# Altium footprint library Gelnar.PcbLib: 295 footprints (part 11 of 19)
Each footprint in its own frame and in the unit in brackets; x right, y up, seen from the top. Pads: shape width x height; smd on the part's side, far side on the other; paste and mask are expansions set on the pad; w line width, h text height; cw(c..) or ccw(c..) is an arc to the next point about the centre after c.
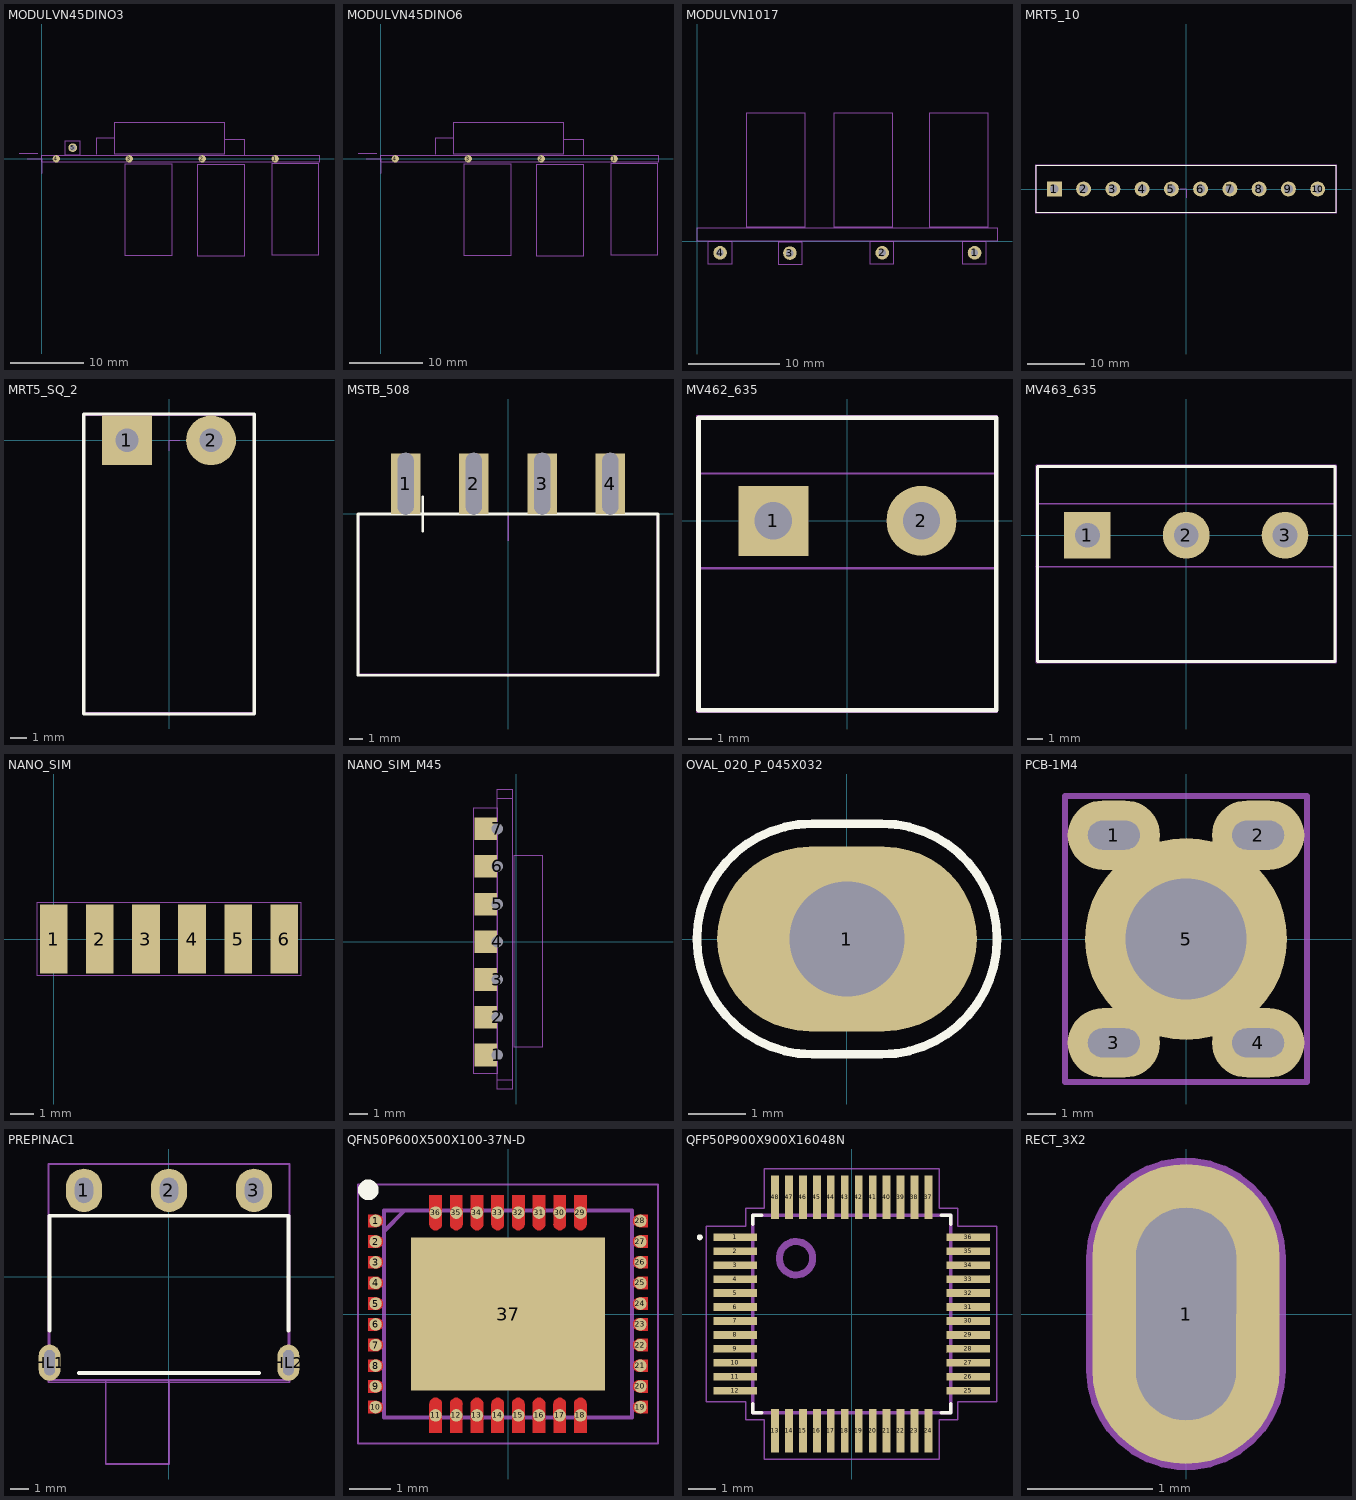
[diagram p10: the footprints below, top view; thin cyan lines are the x and y axes]

## MODULVN45DINO3 [mm]
pads (5):
  round 1 smd: 1(32,0) 2(22,0) 3(12,0) 4(2,0)
  round 1.2 / inner round 1 / far side round 1.2 hole 0.8 mask+0.05: 5(4.25,1.524)
Mechanical 15:
  lines w0.01: 7.493,0.635 7.493,2.794 9.906,2.794 ; 25.019,2.667 27.749,2.667 27.749,0.572 ; 3.238,0.508 5.239,0.508 5.239,2.496 3.238,2.496 3.238,0.508 ; 9.983,0.635 24.983,0.635 24.983,5.016 9.983,5.016 9.983,0.635
  lines w0.1: 0,-0.5 38,-0.5 38,0.5 0,0.5 0,-0.5 ; 11.367,-13.232 17.866,-13.232 17.866,-0.732 11.367,-0.732 11.367,-13.232 ; 21.336,-13.296 27.836,-13.296 27.836,-0.796 21.336,-0.796 21.336,-13.296 ; 31.496,-13.169 37.996,-13.169 37.996,-0.669 31.496,-0.669 31.496,-13.169
Mechanical 16:
  lines w0.1: -3.111,0.71 -0.508,0.71
Multi-Layer:
  text "Value" at 21.562,-0.575 h0.75
Mechanical 19:
  lines w0.01: -2,0 0,0 0,-2

## MODULVN45DINO6 [mm]
pads (4):
  round 1 smd: 1(32,0) 2(22,0) 3(12,0) 4(2,0)
Mechanical 15:
  lines w0.01: 7.493,0.635 7.493,2.794 9.906,2.794 ; 25.019,2.667 27.749,2.667 27.749,0.572 ; 9.983,0.635 24.983,0.635 24.983,5.016 9.983,5.016 9.983,0.635
  lines w0.1: 0,-0.5 38,-0.5 38,0.5 0,0.5 0,-0.5 ; 11.367,-13.232 17.866,-13.232 17.866,-0.732 11.367,-0.732 11.367,-13.232 ; 21.336,-13.296 27.836,-13.296 27.836,-0.796 21.336,-0.796 21.336,-13.296 ; 31.496,-13.169 37.996,-13.169 37.996,-0.669 31.496,-0.669 31.496,-13.169
Mechanical 16:
  lines w0.1: -3.111,0.71 -0.508,0.71
Mechanical 19:
  lines w0.01: -2,0 0,0 0,-2

## MODULVN1017 [mm]
pads (4):
  round 1.5 hole 0.8 mask+0.05: 1(30.528,-1.27) 2(20.377,-1.27) 3(10.217,-1.306) 4(2.54,-1.27)
Mechanical 15:
  lines w0.1: 0,0 33,0 33,1.5 0,1.5 0,0 ; 1.259,-2.54 3.799,-2.54 3.799,0 1.259,0 1.259,-2.54 ; 5.396,1.573 11.896,1.573 11.896,14.073 5.396,14.073 5.396,1.573 ; 8.974,-2.576 11.514,-2.576 11.514,-0.036 8.974,-0.036 8.974,-2.576 ; 15.048,1.573 21.548,1.573 21.548,14.073 15.048,14.073 15.048,1.573 ; 19.052,-2.54 21.592,-2.54 21.592,0 19.052,0 19.052,-2.54 ; 25.525,1.573 32.026,1.573 32.026,14.073 25.525,14.073 25.525,1.573 ; 29.216,-2.54 31.756,-2.54 31.756,0 29.216,0 29.216,-2.54
Multi-Layer:
  text "Value" at 21.562,0.175 h0.75

## MRT5_10 [mm]
pads (10):
  rect 2.6x2.6 / inner round 2.6 / far side round 2.6 hole 1.5 mask+0.1: 1(-22.86,0)
  round 2.6 hole 1.5 mask+0.1: 2(-17.78,0) 3(-12.7,0) 4(-7.62,0) 5(-2.54,0) 6(2.54,0) 7(7.62,0) 8(12.7,0) 9(17.78,0) 10(22.86,0)
Top Overlay:
  lines w0.2: -26,-4.15 26,-4.15 26,4.127 -26,4.127 -26,-4.15
Mechanical 15:
  circle w0.1: c-22.86,0 r0.65
  circle w0.1: c-17.78,0 r0.65
  lines w0.1: -26.035,-4.191 -26.035,4.191 26.035,4.191 26.035,-4.191 -26.035,-4.191
Mechanical 16:
  circle w0.1: c-22.86,0 r0.65
  circle w0.1: c-17.78,0 r0.65
  lines w0.2: -0.953,0 0,0 0,-1.333
Multi-Layer:
  text "Value" at -1.108,-2.266 h0.75
Mechanical 19:
  lines w0.1: -1.016,0 0,0 0,-1.524
Mechanical 20:
  lines w0.1: -25.971,-4.127 25.971,-4.127 25.971,4.127 -25.971,4.127 -25.971,-4.127

## MRT5_SQ_2 [mm]
pads (2):
  rect 3x3 hole 1.4 mask+0.05: 1(-2.54,0)
  round 3 hole 1.4 mask+0.05: 2(2.54,0)
Top Overlay:
  lines w0.2: -5.143,-16.51 5.143,-16.51 5.143,1.587 -5.143,1.587 -5.143,-16.51
Mechanical 15:
  lines w0.01: -5.08,-16.447 5.08,-16.447 5.08,1.524 -5.08,1.524 -5.08,-16.447
Multi-Layer:
  text "Value" at -1.063,-3.364 h0.75
Mechanical 19:
  lines w0.01: 0,-0.635 0,0 0.635,0
Mechanical 20:
  lines w0.01: -5.143,-16.51 5.143,-16.51 5.143,1.587 -5.143,1.587 -5.143,-16.51

## MSTB_508 [mm]
height 9.5
pads (4):
  rect 2.2x4.5 / inner round 0 / far side rect 2.2x4.5 hole 1.2 slot 4.6 at 90 deg mask+0.05: 1(-7.62,2.25) 2(-2.54,2.25) 3(2.54,2.25) 4(7.62,2.25)
Top Overlay:
  lines w0.2: -6.35,-1.27 -6.35,1.27 ; -11.16,-12 11.16,-12 11.16,0 -11.16,0 -11.16,-12
Mechanical 15:
  lines w0.1: -6.35,-1.27 -6.35,1.27 ; -11.16,-12 11.16,-12 11.16,0 -11.16,0 -11.16,-12
Multi-Layer:
  text "Value" at -1.235,-0.361 h0.75
Mechanical 19:
  lines w0.1: 0,-2 0,0 2,0
Mechanical 20:
  lines w0.1: -11.1,-11.93 11.1,-11.93 11.1,-0.03 -11.1,-0.03 -11.1,-11.93

## MV462_635 [mm]
height 9.5
pads (2):
  rect 3x3 / inner round 3 / far side rect 3x3 hole 1.6 mask+0.1: 1(-3.175,0)
  round 3 hole 1.6 mask+0.1: 2(3.175,0)
Top Overlay:
  lines w0.2: -6.386,-8.116 6.386,-8.116 6.386,4.417 -6.386,4.417 -6.386,-8.116
Mechanical 15:
  lines w0.1: -6.413,2.032 6.35,2.032 ; -6.35,-2.032 6.413,-2.032 ; -6.45,-8.18 6.413,-8.18 6.413,4.48 -6.45,4.48 -6.45,-8.18
Mechanical 20:
  lines w0.1: -6.386,-8.116 6.35,-8.116 6.35,4.417 -6.386,4.417 -6.386,-8.116

## MV463_635 [mm]
height 9.5
pads (3):
  rect 3x3 hole 1.6 mask+0.1: 1(-6.35,0)
  round 3 hole 1.6 mask+0.1: 2(0,0) 3(6.35,0)
Top Overlay:
  lines w0.2: -9.561,-8.116 9.561,-8.116 9.561,4.417 -9.561,4.417 -9.561,-8.116
Mechanical 15:
  lines w0.1: -9.652,-2.032 9.461,-2.032 ; -9.588,2.032 9.525,2.032 ; -9.625,-8.18 9.625,-8.18 9.625,4.48 -9.625,4.48 -9.625,-8.18
Mechanical 20:
  lines w0.1: -9.561,-8.116 9.561,-8.116 9.561,4.417 -9.561,4.417 -9.561,-8.116

## NANO_SIM [mm]
pads (6):
  rect 1.2x3 smd mask+0.05: 1(0,0) 2(2,0) 3(4,0) 4(6,0) 5(8,0) 6(10,0)
Mechanical 15:
  lines w0.01: -0.699,-1.587 10.7,-1.587 10.7,1.587 -0.699,1.587 -0.699,-1.587
Multi-Layer:
  text "Value" at 4.763,-0.254 h0.6

## NANO_SIM_M45 [mm]
pads (7):
  rrect0% 1.2x1.2 hole 0.6 copper offset -0.6,0 mask+0.05: 1(-1,-6) 2(-1,-4) 3(-1,-2) 4(-1,0) 5(-1,2) 6(-1,4) 7(-1,6)
Mechanical 15:
  lines w0.01: -1,-7.3 -0.2,-7.3 ; -1,7.6 -0.2,7.6 ; -2.25,-7 -2.25,7.1 -1,7.1 -1,-7 -2.25,-7 ; -1,-7.8 -1,8.1 -0.2,8.1 -0.2,-7.8 -1,-7.8 ; -0.1,-5.6 -0.1,4.6 1.4,4.6 1.4,-5.6 -0.1,-5.6

## OVAL_020_P_045X032 [mm]
pads (1):
  oval 4.5x3.2 hole 2 mask+0.05: 1(0,0)
Top Overlay:
  lines w0.15: -0.6,-2 0.6,-2 ccw(c0.6,0) 0.6,2 -0.6,2 ccw(c-0.6,0) -0.6,-2
Mechanical 15:
  circle w0.1: c0,0 r0.85
Mechanical 16:
  circle w0.1: c0,0 r0.85
Multi-Layer:
  text "Value" at -1.235,-0.933 h0.75
Mechanical 20:
  lines w0.1: -0.6,-2 0.6,-2 ccw(c0.6,0) 0.6,2 -0.6,2 ccw(c-0.6,0) -0.6,-2

## PCB-1M4 [mm]
pads (5):
  oval 3.2x2.4 hole 1 slot 1.8 at 0 deg mask+0.05: 1(-2.5,3.6) 2(2.5,3.6) 3(-2.5,-3.6) 4(2.5,-3.6)
  round 7 hole 4.2 mask+0.05: 5(0,0)
Mechanical 15:
  circle w0.1: c-2.5,3.5 r0.3
  lines w0.2: -4.191,-4.953 4.191,-4.953 4.191,4.953 -4.191,4.953 -4.191,-4.953
Mechanical 16:
  circle w0.1: c-2.5,3.5 r0.3
Mechanical 19:
  lines w0.1: -1.5,0 0,0 0,-1.5

## PREPINAC1 [mm]
pads (5):
  oval 2x2.4 hole 1 slot 1.4 at 90 deg mask+0.05: 1(-4.7,4.765) 2(0,4.765) 3(4.7,4.765)
  oval 1.2x2 hole 0.6 slot 1.4 at 90 deg mask+0.05: HL1(-6.605,-4.765) HL2(6.606,-4.765)
Top Overlay:
  lines w0.2: -6.61,-3 -6.61,3.365 6.61,3.365 6.61,-3 ; -5,-5.334 5,-5.334
Mechanical 15:
  lines w0.1: -6.604,-5.715 6.604,-5.715 6.604,3.365 -6.604,3.365 -6.604,-5.715 ; -3.5,-10.365 0,-10.365 0,-5.715 -3.5,-5.715 -3.5,-10.365
Multi-Layer:
  text "Value" at -1.108,-2.012 h0.75
Mechanical 20:
  lines w0.1: -6.667,-5.842 6.667,-5.842 6.667,6.223 -6.667,6.223 -6.667,-5.842

## QFN50P600X500X100-37N-D [mm]
pads (37):
  round 0.3 smd: 1(-3.2,2.25) 2(-3.2,1.75) 3(-3.2,1.25) 4(-3.2,0.75) 5(-3.2,0.25) 6(-3.2,-0.25) 7(-3.2,-0.75) 8(-3.2,-1.25) 9(-3.2,-1.75) 10(-3.2,-2.25) 11(-1.75,-2.45) 12(-1.25,-2.45) 13(-0.75,-2.45) 14(-0.25,-2.45) 15(0.25,-2.45) 16(0.75,-2.45) 17(1.25,-2.45) 18(1.75,-2.45) 19(3.2,-2.25) 20(3.2,-1.75) 21(3.2,-1.25) 22(3.2,-0.75) 23(3.2,-0.25) 24(3.2,0.25) 25(3.2,0.75) 26(3.2,1.25) 27(3.2,1.75) 28(3.2,2.25) 29(1.75,2.45) 30(1.25,2.45) 31(0.75,2.45) 32(0.25,2.45) 33(-0.25,2.45) 34(-0.75,2.45) 35(-1.25,2.45) 36(-1.75,2.45)
  rect 4.7x3.7 smd: 37(0,0)
L1-Top Layer:
  region: -3.375,2.4 -3.175,2.401 -3.136,2.396 -3.099,2.381 -3.068,2.357 -3.044,2.326 -3.029,2.289 -3.024,2.25 -3.029,2.211 -3.044,2.174 -3.068,2.143 -3.099,2.119 -3.136,2.104 -3.175,2.099 -3.175,2.1 -3.375,2.1
  region: -3.375,1.9 -3.175,1.901 -3.136,1.896 -3.099,1.881 -3.068,1.857 -3.044,1.826 -3.029,1.789 -3.024,1.75 -3.029,1.711 -3.044,1.674 -3.068,1.643 -3.099,1.619 -3.136,1.604 -3.175,1.599 -3.175,1.6 -3.375,1.6
  region: -3.375,1.4 -3.175,1.401 -3.136,1.396 -3.099,1.381 -3.068,1.357 -3.044,1.326 -3.029,1.289 -3.024,1.25 -3.029,1.211 -3.044,1.174 -3.068,1.143 -3.099,1.119 -3.136,1.104 -3.175,1.099 -3.175,1.1 -3.375,1.1
  region: -3.375,0.9 -3.175,0.901 -3.136,0.896 -3.099,0.881 -3.068,0.857 -3.044,0.826 -3.029,0.789 -3.024,0.75 -3.029,0.711 -3.044,0.674 -3.068,0.643 -3.099,0.619 -3.136,0.604 -3.175,0.599 -3.175,0.6 -3.375,0.6
  region: -3.375,0.4 -3.175,0.401 -3.136,0.396 -3.099,0.381 -3.068,0.357 -3.044,0.326 -3.029,0.289 -3.024,0.25 -3.029,0.211 -3.044,0.174 -3.068,0.143 -3.099,0.119 -3.136,0.104 -3.175,0.099 -3.175,0.1 -3.375,0.1
  region: -3.375,-0.1 -3.175,-0.099 -3.136,-0.104 -3.099,-0.119 -3.068,-0.143 -3.044,-0.174 -3.029,-0.211 -3.024,-0.25 -3.029,-0.289 -3.044,-0.326 -3.068,-0.357 -3.099,-0.381 -3.136,-0.396 -3.175,-0.401 -3.175,-0.4 -3.375,-0.4
  region: -3.375,-0.6 -3.175,-0.599 -3.136,-0.604 -3.099,-0.619 -3.068,-0.643 -3.044,-0.674 -3.029,-0.711 -3.024,-0.75 -3.029,-0.789 -3.044,-0.826 -3.068,-0.857 -3.099,-0.881 -3.136,-0.896 -3.175,-0.901 -3.175,-0.9 -3.375,-0.9
  region: -3.375,-1.1 -3.175,-1.099 -3.136,-1.104 -3.099,-1.119 -3.068,-1.143 -3.044,-1.174 -3.029,-1.211 -3.024,-1.25 -3.029,-1.289 -3.044,-1.326 -3.068,-1.357 -3.099,-1.381 -3.136,-1.396 -3.175,-1.401 -3.175,-1.4 -3.375,-1.4
  region: -3.375,-1.6 -3.175,-1.599 -3.136,-1.604 -3.099,-1.619 -3.068,-1.643 -3.044,-1.674 -3.029,-1.711 -3.024,-1.75 -3.029,-1.789 -3.044,-1.826 -3.068,-1.857 -3.099,-1.881 -3.136,-1.896 -3.175,-1.901 -3.175,-1.9 -3.375,-1.9
  region: -3.375,-2.1 -3.175,-2.099 -3.136,-2.104 -3.099,-2.119 -3.068,-2.143 -3.044,-2.174 -3.029,-2.211 -3.024,-2.25 -3.029,-2.289 -3.044,-2.326 -3.068,-2.357 -3.099,-2.381 -3.136,-2.396 -3.175,-2.401 -3.175,-2.4 -3.375,-2.4
  region: -1.9,-2.875 -1.901,-2.175 -1.896,-2.136 -1.881,-2.099 -1.857,-2.068 -1.826,-2.044 -1.789,-2.029 -1.75,-2.024 -1.711,-2.029 -1.674,-2.044 -1.643,-2.068 -1.619,-2.099 -1.604,-2.136 -1.599,-2.175 -1.6,-2.175 -1.6,-2.875
  region: -1.4,-2.875 -1.401,-2.175 -1.396,-2.136 -1.381,-2.099 -1.357,-2.068 -1.326,-2.044 -1.289,-2.029 -1.25,-2.024 -1.211,-2.029 -1.174,-2.044 -1.143,-2.068 -1.119,-2.099 -1.104,-2.136 -1.099,-2.175 -1.1,-2.175 -1.1,-2.875
  region: -0.9,-2.875 -0.901,-2.175 -0.896,-2.136 -0.881,-2.099 -0.857,-2.068 -0.826,-2.044 -0.789,-2.029 -0.75,-2.024 -0.711,-2.029 -0.674,-2.044 -0.643,-2.068 -0.619,-2.099 -0.604,-2.136 -0.599,-2.175 -0.6,-2.175 -0.6,-2.875
  region: -0.4,-2.875 -0.401,-2.175 -0.396,-2.136 -0.381,-2.099 -0.357,-2.068 -0.326,-2.044 -0.289,-2.029 -0.25,-2.024 -0.211,-2.029 -0.174,-2.044 -0.143,-2.068 -0.119,-2.099 -0.104,-2.136 -0.099,-2.175 -0.1,-2.175 -0.1,-2.875
  region: 0.1,-2.875 0.099,-2.175 0.104,-2.136 0.119,-2.099 0.143,-2.068 0.174,-2.044 0.211,-2.029 0.25,-2.024 0.289,-2.029 0.326,-2.044 0.357,-2.068 0.381,-2.099 0.396,-2.136 0.401,-2.175 0.4,-2.175 0.4,-2.875
  region: 0.6,-2.875 0.599,-2.175 0.604,-2.136 0.619,-2.099 0.643,-2.068 0.674,-2.044 0.711,-2.029 0.75,-2.024 0.789,-2.029 0.826,-2.044 0.857,-2.068 0.881,-2.099 0.896,-2.136 0.901,-2.175 0.9,-2.175 0.9,-2.875
  region: 1.1,-2.875 1.099,-2.175 1.104,-2.136 1.119,-2.099 1.143,-2.068 1.174,-2.044 1.211,-2.029 1.25,-2.024 1.289,-2.029 1.326,-2.044 1.357,-2.068 1.381,-2.099 1.396,-2.136 1.401,-2.175 1.4,-2.175 1.4,-2.875
  region: 1.6,-2.875 1.599,-2.175 1.604,-2.136 1.619,-2.099 1.643,-2.068 1.674,-2.044 1.711,-2.029 1.75,-2.024 1.789,-2.029 1.826,-2.044 1.857,-2.068 1.881,-2.099 1.896,-2.136 1.901,-2.175 1.9,-2.175 1.9,-2.875
  region: 3.375,-2.4 3.175,-2.401 3.136,-2.396 3.099,-2.381 3.068,-2.357 3.044,-2.326 3.029,-2.289 3.024,-2.25 3.029,-2.211 3.044,-2.174 3.068,-2.143 3.099,-2.119 3.136,-2.104 3.175,-2.099 3.175,-2.1 3.375,-2.1
  region: 3.375,-1.9 3.175,-1.901 3.136,-1.896 3.099,-1.881 3.068,-1.857 3.044,-1.826 3.029,-1.789 3.024,-1.75 3.029,-1.711 3.044,-1.674 3.068,-1.643 3.099,-1.619 3.136,-1.604 3.175,-1.599 3.175,-1.6 3.375,-1.6
  region: 3.375,-1.4 3.175,-1.401 3.136,-1.396 3.099,-1.381 3.068,-1.357 3.044,-1.326 3.029,-1.289 3.024,-1.25 3.029,-1.211 3.044,-1.174 3.068,-1.143 3.099,-1.119 3.136,-1.104 3.175,-1.099 3.175,-1.1 3.375,-1.1
  region: 3.375,-0.9 3.175,-0.901 3.136,-0.896 3.099,-0.881 3.068,-0.857 3.044,-0.826 3.029,-0.789 3.024,-0.75 3.029,-0.711 3.044,-0.674 3.068,-0.643 3.099,-0.619 3.136,-0.604 3.175,-0.599 3.175,-0.6 3.375,-0.6
  region: 3.375,-0.4 3.175,-0.401 3.136,-0.396 3.099,-0.381 3.068,-0.357 3.044,-0.326 3.029,-0.289 3.024,-0.25 3.029,-0.211 3.044,-0.174 3.068,-0.143 3.099,-0.119 3.136,-0.104 3.175,-0.099 3.175,-0.1 3.375,-0.1
  region: 3.375,0.1 3.175,0.099 3.136,0.104 3.099,0.119 3.068,0.143 3.044,0.174 3.029,0.211 3.024,0.25 3.029,0.289 3.044,0.326 3.068,0.357 3.099,0.381 3.136,0.396 3.175,0.401 3.175,0.4 3.375,0.4
  region: 3.375,0.6 3.175,0.599 3.136,0.604 3.099,0.619 3.068,0.643 3.044,0.674 3.029,0.711 3.024,0.75 3.029,0.789 3.044,0.826 3.068,0.857 3.099,0.881 3.136,0.896 3.175,0.901 3.175,0.9 3.375,0.9
  region: 3.375,1.1 3.175,1.099 3.136,1.104 3.099,1.119 3.068,1.143 3.044,1.174 3.029,1.211 3.024,1.25 3.029,1.289 3.044,1.326 3.068,1.357 3.099,1.381 3.136,1.396 3.175,1.401 3.175,1.4 3.375,1.4
  region: 3.375,1.6 3.175,1.599 3.136,1.604 3.099,1.619 3.068,1.643 3.044,1.674 3.029,1.711 3.024,1.75 3.029,1.789 3.044,1.826 3.068,1.857 3.099,1.881 3.136,1.896 3.175,1.901 3.175,1.9 3.375,1.9
  region: 3.375,2.1 3.175,2.099 3.136,2.104 3.099,2.119 3.068,2.143 3.044,2.174 3.029,2.211 3.024,2.25 3.029,2.289 3.044,2.326 3.068,2.357 3.099,2.381 3.136,2.396 3.175,2.401 3.175,2.4 3.375,2.4
  region: 1.9,2.875 1.901,2.175 1.896,2.136 1.881,2.099 1.857,2.068 1.826,2.044 1.789,2.029 1.75,2.024 1.711,2.029 1.674,2.044 1.643,2.068 1.619,2.099 1.604,2.136 1.599,2.175 1.6,2.175 1.6,2.875
  region: 1.4,2.875 1.401,2.175 1.396,2.136 1.381,2.099 1.357,2.068 1.326,2.044 1.289,2.029 1.25,2.024 1.211,2.029 1.174,2.044 1.143,2.068 1.119,2.099 1.104,2.136 1.099,2.175 1.1,2.175 1.1,2.875
  region: 0.9,2.875 0.901,2.175 0.896,2.136 0.881,2.099 0.857,2.068 0.826,2.044 0.789,2.029 0.75,2.024 0.711,2.029 0.674,2.044 0.643,2.068 0.619,2.099 0.604,2.136 0.599,2.175 0.6,2.175 0.6,2.875
  region: 0.4,2.875 0.401,2.175 0.396,2.136 0.381,2.099 0.357,2.068 0.326,2.044 0.289,2.029 0.25,2.024 0.211,2.029 0.174,2.044 0.143,2.068 0.119,2.099 0.104,2.136 0.099,2.175 0.1,2.175 0.1,2.875
  region: -0.1,2.875 -0.099,2.175 -0.104,2.136 -0.119,2.099 -0.143,2.068 -0.174,2.044 -0.211,2.029 -0.25,2.024 -0.289,2.029 -0.326,2.044 -0.357,2.068 -0.381,2.099 -0.396,2.136 -0.401,2.175 -0.4,2.175 -0.4,2.875
  region: -0.6,2.875 -0.599,2.175 -0.604,2.136 -0.619,2.099 -0.643,2.068 -0.674,2.044 -0.711,2.029 -0.75,2.024 -0.789,2.029 -0.826,2.044 -0.857,2.068 -0.881,2.099 -0.896,2.136 -0.901,2.175 -0.9,2.175 -0.9,2.875
  region: -1.1,2.875 -1.099,2.175 -1.104,2.136 -1.119,2.099 -1.143,2.068 -1.174,2.044 -1.211,2.029 -1.25,2.024 -1.289,2.029 -1.326,2.044 -1.357,2.068 -1.381,2.099 -1.396,2.136 -1.401,2.175 -1.4,2.175 -1.4,2.875
  region: -1.6,2.875 -1.599,2.175 -1.604,2.136 -1.619,2.099 -1.643,2.068 -1.674,2.044 -1.711,2.029 -1.75,2.024 -1.789,2.029 -1.826,2.044 -1.857,2.068 -1.881,2.099 -1.896,2.136 -1.901,2.175 -1.9,2.175 -1.9,2.875
Top Overlay:
  circle w0.25: c-3.375,3 r0.125
Mechanical 15:
  lines w0.1: -3,2 -2.5,2.5 ; -3,-2.5 3,-2.5 3,2.5 -3,2.5 -3,-2.5
Mechanical 20:
  lines w0.05: -3.625,-3.125 3.625,-3.125 3.625,3.125 -3.625,3.125 -3.625,-3.125

## QFP50P900X900X16048N [mm]
pads (48):
  rect 1.56x0.28 smd: 1(-4.18,2.75) 2(-4.18,2.25) 3(-4.18,1.75) 4(-4.18,1.25) 5(-4.18,0.75) 6(-4.18,0.25) 7(-4.18,-0.25) 8(-4.18,-0.75) 9(-4.18,-1.25) 10(-4.18,-1.75) 11(-4.18,-2.25) 12(-4.18,-2.75) 25(4.18,-2.75) 26(4.18,-2.25) 27(4.18,-1.75) 28(4.18,-1.25) 29(4.18,-0.75) 30(4.18,-0.25) 31(4.18,0.25) 32(4.18,0.75) 33(4.18,1.25) 34(4.18,1.75) 35(4.18,2.25) 36(4.18,2.75)
  rect 0.28x1.56 smd: 13(-2.75,-4.18) 14(-2.25,-4.18) 15(-1.75,-4.18) 16(-1.25,-4.18) 17(-0.75,-4.18) 18(-0.25,-4.18) 19(0.25,-4.18) 20(0.75,-4.18) 21(1.25,-4.18) 22(1.75,-4.18) 23(2.25,-4.18) 24(2.75,-4.18) 37(2.75,4.18) 38(2.25,4.18) 39(1.75,4.18) 40(1.25,4.18) 41(0.75,4.18) 42(0.25,4.18) 43(-0.25,4.18) 44(-0.75,4.18) 45(-1.25,4.18) 46(-1.75,4.18) 47(-2.25,4.18) 48(-2.75,4.18)
Top Overlay:
  region: -5.35,2.75 -5.35,2.77 -5.365,2.807 -5.393,2.835 -5.43,2.85 -5.45,2.85 -5.47,2.85 -5.507,2.835 -5.535,2.807 -5.55,2.77 -5.55,2.75 -5.55,2.73 -5.535,2.693 -5.507,2.665 -5.47,2.65 -5.45,2.65 -5.43,2.65 -5.393,2.665 -5.365,2.693 -5.35,2.73
  lines w0.127: -3.55,-3.22 -3.55,-3.55 -3.22,-3.55 ; -3.55,3.22 -3.55,3.55 -3.22,3.55 ; 3.22,-3.55 3.55,-3.55 3.55,-3.22 ; 3.22,3.55 3.55,3.55 3.55,3.22
Mechanical 15:
  drawing of 53 lines, arcs and shapes, not listed
Mechanical 20:
  lines w0.05: -5.21,-3.14 -3.8,-3.14 -3.8,-3.8 -3.14,-3.8 -3.14,-5.21 3.14,-5.21 3.14,-3.8 3.8,-3.8 3.8,-3.14 5.21,-3.14 5.21,3.14 3.8,3.14 3.8,3.8 3.14,3.8 3.14,5.21 -3.14,5.21 -3.14,3.8 -3.8,3.8 -3.8,3.14 -5.21,3.14 -5.21,-3.14

## RECT_3X2 [mm]
pads (1):
  oval 1.5x2.4 hole 0.8 slot 1.7 at 90 deg mask+0.05: 1(0,0)
Mechanical 15:
  lines w0.1: -0.75,-0.45 ccw(c0,-0.45) 0.75,-0.45 0.75,0.45 ccw(c0,0.45) -0.75,0.45 -0.75,-0.45
Mechanical 19:
  lines w0.1: -0.381,-0.508 0.381,-0.508 0.381,0.508 -0.381,0.508 -0.381,-0.508